# EAGLE library part C8051F30X (library cygnal_mini)
Cygnal C8051F300/1/2/3/4/5 Microcontrollers
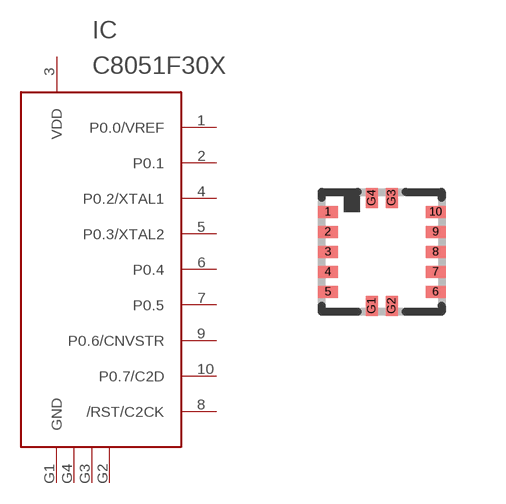
[diagram p3: symbol with the pads of MLP11; footprint MLP11]

Designator prefix IC

## C8051F30X  [MLP11]
1  P0.0/VREF
2  P0.1
3  VDD  pwr
4  P0.2/XTAL1
5  P0.3/XTAL2
6  P0.4
7  P0.5
8  /RST/C2CK
9  P0.6/CNVSTR
10  P0.7/C2D
G1  GND  pwr
G2  GND1  pwr
G3  GND2  pwr
G4  GND3  pwr

## Footprint MLP11 (pad centres in mm)
Cygnal MLP11
smd 0.5 x 0.3: 1 -1.35,1; 2 -1.35,0.5; 3 -1.35,0; 4 -1.35,-0.5; 5 -1.35,-1; 6 1.35,-1; 7 1.35,-0.5; 8 1.35,0; 9 1.35,0.5; 10 1.35,1
smd 0.3 x 0.5: G1 -0.25,-1.35; G2 0.25,-1.35; G3 0.25,1.35; G4 -0.25,1.35